# EAGLE library part TPS54561 (library dawidkulpa_dev)
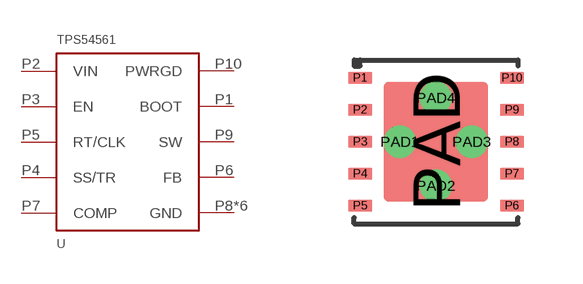
[diagram p33: symbol with the pads of WSON10_4X4; footprint WSON10_4X4]

Designator prefix -

## TPS54561  [WSON10_4X4]
P1  BOOT
P2  VIN
P3  EN
P4  SS/TR
P5  RT/CLK
P6  FB
P7  COMP
P8  GND
P9  SW
P10  PWRGD
PAD  GND
PAD1  GND
PAD2  GND
PAD3  GND
PAD4  GND

## Footprint WSON10_4X4 (pad centres in mm)
smd 0.6 x 0.3: P1 -1.9,1.6; P2 -1.9,0.8; P3 -1.9,0; P4 -1.9,-0.8; P5 -1.9,-1.6; P6 1.9,-1.6; P7 1.9,-0.8; P8 1.9,0; P9 1.9,0.8; P10 1.9,1.6
smd 2.6 x 3: PAD 0,0
drill 0.3 pad 0.61: PAD1 -0.9,0; PAD2 0,-1.1; PAD3 0.9,0; PAD4 0,1.1